# Altium footprint library resistor_thd.PcbLib: 26 footprints (part 2 of 2)
Each footprint in its own frame and in the unit in brackets; x right, y up, seen from the top. Pads: shape width x height; smd on the part's side, far side on the other; paste and mask are expansions set on the pad; w line width, h text height; cw(c..) or ccw(c..) is an arc to the next point about the centre after c.
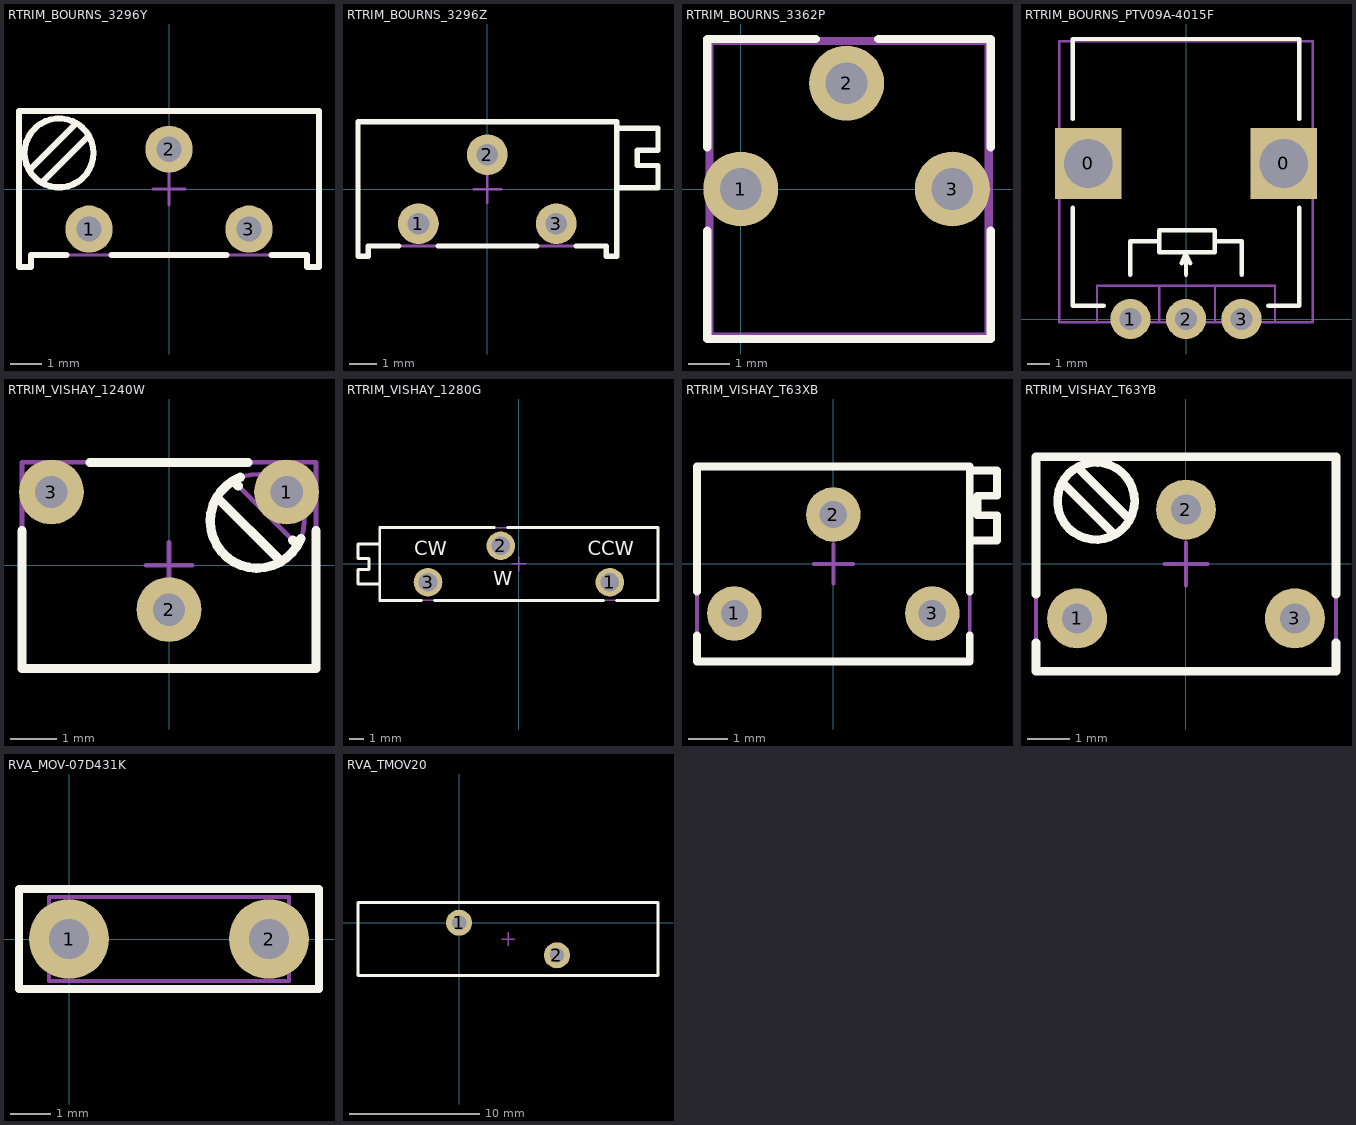
[diagram p1: the footprints below, top view; thin cyan lines are the x and y axes]

## RTRIM_BOURNS_3296Y [mm] "Trimming Potentiometer BOURNS 3296Y Series"
height 11.55
pads (3):
  round 1.5 hole 0.8: 1(-2.54,-1.27) 2(0,1.27) 3(2.54,-1.27)
Top Overlay:
  circle w0.2: c-3.495,1.15 r1.095
  lines w0.2: -4.442,0.599 -2.944,2.097 ; -4.046,0.203 -2.548,1.701 ; -3.265,-2.095 -4.385,-2.095 -4.385,-2.475 -4.765,-2.475 -4.765,2.485 4.765,2.485 4.765,-2.475 4.385,-2.475 4.385,-2.095 3.265,-2.095 ; -1.816,-2.095 1.816,-2.095
Mechanical 1:
  circle w0.1: c-3.495,1.15 r1.095
  lines w0.1: -4.442,0.599 -2.944,2.097 ; -4.046,0.203 -2.548,1.701 ; -4.765,-2.475 -4.765,2.485 4.765,2.485 4.765,-2.475 4.385,-2.475 4.385,-2.095 -4.385,-2.095 -4.385,-2.475 -4.765,-2.475
Mechanical 15:
  lines w0.1: -0.5,0 0,0 ; 0,-0.5 0,0 ; 0,0.5 0,0 ; 0.5,0 0,0 ; -4.765,-2.475 -4.765,2.485 4.765,2.485 4.765,-2.475 4.385,-2.475 4.385,-2.095 -4.385,-2.095 -4.385,-2.475 -4.765,-2.475
3D body "TRIM_BOURNS_3296Y.stp": height 11.49, standoff -3.42, extent -4.765,-2.475 4.765,2.485

## RTRIM_BOURNS_3296Z [mm] "Trimming Potentiometer BOURNS 3296Z Series"
height 10.03
pads (3):
  round 1.5 hole 0.8: 1(-2.54,-1.27) 2(0,1.27) 3(2.54,-1.27)
Top Overlay:
  lines w0.2: -3.265,-2.095 -4.385,-2.095 -4.385,-2.475 -4.765,-2.475 -4.765,2.485 4.765,2.485 4.765,-2.475 4.385,-2.475 4.385,-2.095 3.265,-2.095 ; -1.816,-2.095 1.816,-2.095 ; 4.765,0.055 6.285,0.055 6.285,0.87 5.525,0.87 5.525,1.15 5.525,1.43 6.285,1.43 6.285,2.245 4.765,2.245
Mechanical 1:
  lines w0.1: 4.765,0.055 6.285,0.055 6.285,0.87 5.525,0.87 5.525,1.15 5.525,1.43 6.285,1.43 6.285,2.245 4.765,2.245 ; -4.765,-2.475 -4.765,2.485 4.765,2.485 4.765,-2.475 4.385,-2.475 4.385,-2.095 -4.385,-2.095 -4.385,-2.475 -4.765,-2.475
Mechanical 15:
  lines w0.1: -0.5,0 0,0 ; 0,-0.5 0,0 ; 0,0.5 0,0 ; 0.5,0 0,0 ; 4.765,0.056 6.285,0.056 6.285,0.871 5.525,0.871 5.525,1.151 5.525,1.431 6.285,1.431 6.285,2.246 4.765,2.246 ; -4.765,-2.474 -4.765,2.486 4.765,2.486 4.765,-2.474 4.385,-2.474 4.385,-2.094 -4.385,-2.094 -4.385,-2.474 -4.765,-2.474
3D body "TRIM_BOURNS_3296Z.stp": height 10.03, standoff -3.42, extent -4.765,-2.475 6.285,2.485

## RTRIM_BOURNS_3362P [mm] "Trimming Potentiometer BOURNS 3362P Series"
pads (3):
  round 1.8 hole 1: 1(0,0) 2(2.54,2.54) 3(5.08,0)
Top Overlay:
  lines w0.2: -0.8,-1 -0.8,-3.6 6,-3.6 6,-1 ; -0.8,1 -0.8,3.6 1.8,3.6 ; 3.3,3.6 6,3.6 6,1
Mechanical 1:
  lines w0.1: -0.7,-3.49 5.9,-3.49 5.9,3.5 -0.7,3.5 -0.7,-3.49
Mechanical 15:
  lines w0.1: -0.8,-3.6 6,-3.6 6,3.6 -0.8,3.6 -0.8,-3.6
3D body "User Library-R_3362P.STEP": height 4.5, standoff -3, extent -0.7,-3.49 5.9,3.5

## RTRIM_BOURNS_PTV09A-4015F [mm] "1 Turn Panel Control Trimming Potentiometer PTV09A Series"
pads (5):
  rect 3x3.2 hole 2.2 square: 0(-4.4,7) 0(4.4,7)
  round 1.8 hole 1: 1(-2.5,0) 2(0,0) 3(2.5,0)
Top Overlay:
  lines w0.2: -5.1,5 -5.1,0.6 -3.7,0.6 ; -5.1,9 -5.1,12.6 5.1,12.6 5.1,9 ; -2.5,2 -2.5,3.5 -1.2,3.5 ; -0.2,2.5 0,3 0,2 ; 0,2.9 0.2,2.5 ; 1.3,3.5 2.5,3.5 2.5,2 ; 3.7,0.6 5.1,0.6 5.1,5 ; -1.2,3.5 -1.2,4 1.3,4 1.3,3 -1.2,3 -1.2,3.5
Mechanical 1:
  lines w0.1: -4,-0.15 -4,1.5 4,1.5 4,-0.15 ; -2.5,2 -2.5,3.5 -1.2,3.5 ; -1.2,-0.15 -1.2,1.5 ; -0.2,2.5 0,3 ; 0,2 0,3 ; 0.2,2.5 0,3 ; 1.3,-0.15 1.3,1.5 ; 1.3,3.5 2.5,3.5 2.5,2 ; -1.2,3.5 -1.2,4 1.3,4 1.3,3 -1.2,3 -1.2,3.5 ; -5.7,-0.15 5.7,-0.15 5.7,12.5 -5.7,12.5 -5.7,-0.15
3D body "6666.STEP": height 15.05, standoff -3.94, extent -5.7,-0.15 5.7,12.5

## RTRIM_VISHAY_1240W [mm] "21 Turn Bulk Metal® Foil Technology Ultra High Precision Trimming Potentiometer 1/4\" Square, Accutrim 1240W (RJ26 Style)"
height 7.37
pads (3):
  round 1.4 hole 0.7: 1(2.54,1.585) 2(0,-0.955) 3(-2.54,1.585)
Top Overlay:
  lines w0.2: -3.175,0.749 -3.175,-2.225 3.175,-2.225 3.175,0.749 ; -1.708,2.225 1.708,2.225 ; 1.033,1.474 2.424,0.083 ; 1.386,1.827 1.498,1.715 ; 1.539,1.902 ccw(c1.905,0.955) 2.849,0.581 ; 2.67,0.543 2.777,0.436
Mechanical 1:
  circle w0.1: c1.905,0.955 r1.015
  lines w0.1: 1.033,1.474 2.424,0.083 ; 1.386,1.827 2.777,0.436 ; -3.175,-2.225 -3.175,2.225 3.175,2.225 3.175,-2.225 -3.175,-2.225
Mechanical 15:
  lines w0.1: -0.5,0 0,0 ; 0,-0.5 0,0 ; 0,0.5 0,0 ; 0.5,0 0,0 ; -3.175,-2.225 -3.175,2.225 3.175,2.225 3.175,-2.225 -3.175,-2.225
3D body "TRIM_VISHAY_1240W.stp": height 7.37, standoff -3.1, extent -3.175,-2.225 3.175,2.225

## RTRIM_VISHAY_1280G [mm] "26 Turn Bulk Metal® Foil Technology Ultra High Precision Trimming Potentiometers, Body 19.05x4.83x7.11mm, Accutrim 1280G Series"
height 7.11
pads (3):
  round 2 hole 1.3: 1(6.355,-1.27) 2(-1.265,1.27) 3(-6.345,-1.27)
Top Overlay:
  lines w0.2: -9.715,-1.395 -11.235,-1.395 -11.235,-0.38 -10.475,-0.38 -10.475,0.38 -11.235,0.38 -11.235,1.395 -9.715,1.395 ; -6.803,-2.54 -9.715,-2.54 -9.715,2.54 -1.723,2.54 ; -5.887,-2.54 5.897,-2.54 ; -0.807,2.54 9.715,2.54 9.715,-2.54 6.813,-2.54
  text "CW" at -7.3,0.6 h1
  text "W" at -1.8,-1.5 h1
  text "CCW" at 4.8,0.6 h1
Mechanical 1:
  lines w0.1: -9.715,-1.395 -11.235,-1.395 -11.235,-0.38 -10.475,-0.38 -10.475,0.38 -11.235,0.38 -11.235,1.395 -9.715,1.395 ; -9.715,-2.54 -5.887,-2.54 6.813,-2.54 9.715,-2.54 9.715,2.54 -0.807,2.54 -9.715,2.54 -9.715,-2.54
  text "CW" at -7.3,0.6 h1
  text "W" at -1.8,-1.5 h1
  text "CCW" at 4.8,0.6 h1
Mechanical 15:
  lines w0.1: -9.714,-1.395 -11.234,-1.395 -11.234,-0.38 -10.474,-0.38 -10.474,0.38 -11.234,0.38 -11.234,1.395 -9.714,1.395 ; -0.5,0 0,0 ; 0,-0.5 0,0 ; 0,0.5 0,0 ; 0.5,0 0,0 ; -9.714,-2.54 -5.886,-2.54 6.814,-2.54 9.716,-2.54 9.716,2.54 -0.806,2.54 -9.714,2.54 -9.714,-2.54
3D body "TRIM_VISHAY_1280G.stp": height 7.11, standoff -3.81, extent -11.235,-2.54 9.715,2.54

## RTRIM_VISHAY_T63XB [mm] "Trimming Potentiometer VISHAY T63YB Series (Side Adjustment)"
height 7
pads (3):
  round 1.4 hole 0.7: 1(-2.54,-1.27) 2(0,1.27) 3(2.54,-1.27)
Top Overlay:
  lines w0.2: -3.5,-2.5 3.5,-2.5 ; -3.5,-2.5 -3.5,-1.835 ; -3.5,-0.705 -3.5,2.5 3.5,2.5 3.5,-0.705 ; 3.5,-2.5 3.5,-1.835 ; 3.5,0.6 4.2,0.6 4.2,1.25 3.7,1.25 3.7,1.75 4.2,1.75 4.2,2.4 3.5,2.4
Mechanical 1:
  lines w0.1: 3.5,0.6 4.2,0.6 4.2,1.25 3.7,1.25 3.7,1.75 4.2,1.75 4.2,2.4 3.5,2.4 ; -3.5,-2.5 -3.5,2.5 3.5,2.5 3.5,-2.5 -3.5,-2.5
Mechanical 15:
  lines w0.1: -0.5,0 0,0 ; 0,-0.5 0,0 ; 0,0.5 0,0 ; 0.5,0 0,0 ; 3.5,0.6 4.2,0.6 4.2,1.25 3.7,1.25 3.7,1.75 4.2,1.75 4.2,2.4 3.5,2.4 ; -3.5,-2.5 3.5,-2.5 3.5,2.5 -3.5,2.5 -3.5,-2.5
3D body "TRIM_VISHAY_T63XB.stp": height 7, standoff -3.6, extent -3.5,-2.5 4.2,2.5

## RTRIM_VISHAY_T63YB [mm] "Trimming Potentiometer VISHAY T63YB Series (Top Adjustment)"
height 7.7
pads (3):
  round 1.4 hole 0.7: 1(-2.54,-1.27) 2(0,1.27) 3(2.54,-1.27)
Top Overlay:
  circle w0.2: c-2.1,1.47 r0.9
  lines w0.2: -3.5,-2.5 3.5,-2.5 ; -3.5,-2.5 -3.5,-1.835 ; -3.5,-0.705 -3.5,2.5 3.5,2.5 3.5,-0.705 ; -2.888,1.905 -1.665,0.682 ; -2.535,2.258 -1.312,1.035 ; 3.5,-2.5 3.5,-1.835
Mechanical 1:
  circle w0.1: c-2.1,1.47 r0.9
  lines w0.1: -2.888,1.905 -1.665,0.682 ; -2.535,2.258 -1.312,1.035 ; -3.5,-2.5 -3.5,2.5 3.5,2.5 3.5,-2.5 -3.5,-2.5
Mechanical 15:
  lines w0.1: -0.5,0 0,0 ; 0,-0.5 0,0 ; 0,0.5 0,0 ; 0.5,0 0,0 ; -3.5,-2.5 3.5,-2.5 3.5,2.5 -3.5,2.5 -3.5,-2.5
3D body "TRIM_VISHAY_T63YB.stp": height 7.5, standoff -3.6, extent -3.4,-2.5 3.4,2.5

## RVA_MOV-07D431K [mm]
pads (2):
  round 2 hole 1: 1(0,0) 2(5,0)
Top Overlay:
  lines w0.2: -1.25,-1.25 6.25,-1.25 6.25,1.25 -1.25,1.25 -1.25,-1.25
Mechanical 1:
  lines w0.1: -0.5,-1.05 5.5,-1.05 5.5,1.05 -0.5,1.05 -0.5,-1.05
Mechanical 15:
  lines w0.1: -1.25,-1.25 -1.25,1.25 6.25,1.25 6.25,-1.25 -1.25,-1.25
3D body "User Library-Disc_CAP d6x3_5_5mm.STEP": height 8.1, standoff -2.02, extent -0.5,-1.05 5.5,1.05

## RVA_TMOV20 [mm]
pads (2):
  round 2 hole 1.1: 1(0,0) 2(7.5,-2.5)
Top Overlay:
  lines w0.2: -7.75,-4.05 15.246,-4.05 15.246,1.55 -7.75,1.55 -7.75,-4.05
Mechanical 1:
  lines w0.1: -7.75,-4.05 15.246,-4.05 15.246,1.55 -7.75,1.55 -7.75,-4.05
Mechanical 15:
  lines w0.1: 3.25,-1.25 4.25,-1.25 ; 3.75,-1.75 3.75,-0.75 ; -7.75,-4.05 15.246,-4.05 15.246,1.55 -7.75,1.55 -7.75,-4.05
3D body "User Library-Varistor 20mm.STEP": height 26.7, standoff -2.8, extent -7.75,-4.05 15.246,1.55